# Altium integrated library ESP32S3 controller.IntLib: 13 symbols
Pins are listed as number, name and electrical type; pins without a type are passive.

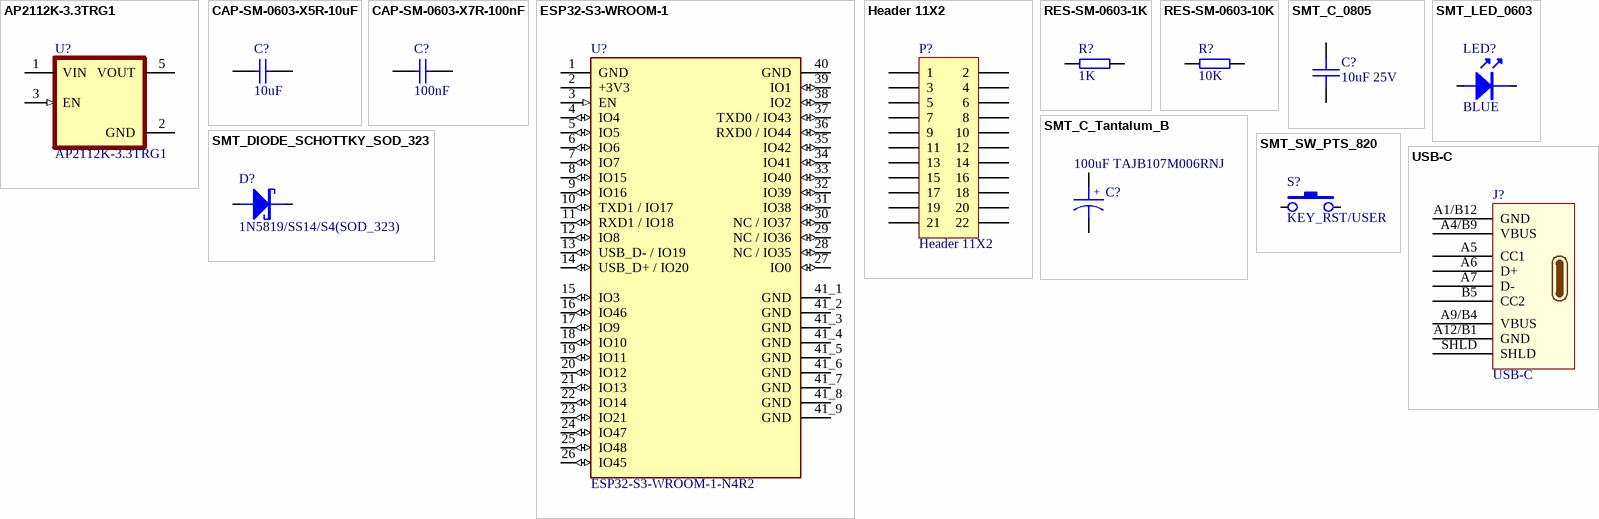
[diagram p0: symbols AP2112K-3.3TRG1 to USB-C]

## AP2112K-3.3TRG1
designator U?
Linear Voltage Regulator IC 1 Output 600mA SOT-25; MF: Diodes Inc.; Digi-Key_Part_Number: AP2112K-3.3TRG1DICT-ND; SnapEDA_Link: https://www.snapeda.com/parts/AP2112K-3.3TRG1/Diodes%20Inc./view-part/454988/?ref=snap; Package: SOT-753 Diodes Inc.; MP: AP2112K-3.3TRG1; Value: *; Digi-Key_Purchase_URL: https://www.digikey.com.au/product-detail/en/diodes-incorporated/AP2112K-3.3TRG1/AP2112K-3.3TRG1DICT-ND/4505257?utm_source=snapeda&utm_medium=aggregator&utm_campaign=symbol
footprint SOT95P285X140-5N
footprint SOT23-5
pins: 1 VIN (power), 2 GND (power), 3 EN (in), 5 VOUT (power)

## CAP-SM-0603-X5R-10uF
designator C?, comment value 10uF  (hidden comment: Cap Semi)
CAP SM 0603 X5R 10uF 10%; Tolerance: ±10%; Supplier 1: Farnell; Supplier 2: Digi-Key; Supplier Part Number 1: 2366833; Supplier Part Number 2: 490-3896-1-ND
footprint SMT0603
footprint CAPC1608X90N (Chip Capacitor, Body 1.6x0.8mm, EIA 0603, IPC Medium Density)
pins: 1, 2

## CAP-SM-0603-X7R-100nF
designator C?, comment value 100nF  (hidden comment: Cap Semi)
CAP SM 0603 X7R 100nF 10%; Tolerance: ±10%; Supplier 1: Digi-Key; Supplier 2: Farnell; Supplier Part Number 1: 490-3167-1-ND; Supplier Part Number 2: 1775994RL
footprint SMT0603
footprint CAPC1608X90N (Chip Capacitor, Body 1.6x0.8mm, EIA 0603, IPC Medium Density)
pins: 1, 2

## ESP32-S3-WROOM-1
designator U?, comment ESP32-S3-WROOM-1-N4R2
Multiprotocol Modules SMD Module, ESP32-S3R8, 3.3V, 8 MB Octal PSRAM Die, 16 MB Quad SPI Flash, PCB Antenna; MPN: ESP32-S3-WROOM-1-N16R2; MF: Espressif Systems; Supplier Link: https://www.digikey.com/en/products/detail/espressif-systems/ESP32-S3-WROOM-1-N16R2/16162644; Package: Module Espressif Systems; Value: *; Digi-Key_Part_Number: 1965-ESP32-S3-WROOM-1-N16R2TR-ND; Check_prices: https://www.snapeda.com/parts/ESP32-WROOM-32/Espressif+Systems/view-part/?ref=eda; SnapEDA_Link: https://www.snapeda.com/parts/ESP32-WROOM-32/Espressif+Systems/view-part/?ref=snap; Price: 3.98; Supplier: Digikey
footprint ESP32-S3-WROOM-1
footprint ESP32-S3-WROOM-1_NO-KEEPOUT
pins: 1 GND (power), 2 +3V3 (power), 3 EN (in), 4 IO4 (io), 5 IO5 (io), 6 IO6 (io), 7 IO7 (io), 8 IO15 (io), 9 IO16 (io), 10 TXD1 / IO17 (io), 11 RXD1 / IO18 (io), 12 IO8 (io), 13 USB_D- / IO19 (io), 14 USB_D+ / IO20 (io), 15 IO3 (io), 16 IO46 (io), 17 IO9 (io), 18 IO10 (io), 19 IO11 (io), 20 IO12 (io), 21 IO13 (io), 22 IO14 (io), 23 IO21 (io), 24 IO47 (io), 25 IO48 (io), 26 IO45 (io), 27 IO0 (io), 28 NC / IO35 (io), 29 NC / IO36 (io), 30 NC / IO37 (io), 31 IO38 (io), 32 IO39 (io), 33 IO40 (io), 34 IO41 (io), 35 IO42 (io), 36 RXD0 / IO44 (io), 37 TXD0 / IO43 (io), 38 IO2 (io), 39 IO1 (io), 40 GND (power), 41_1 GND (power), 41_2 GND (power), 41_3 GND (power), 41_4 GND (power), 41_5 GND (power), 41_6 GND (power), 41_7 GND (power), 41_8 GND (power), 41_9 GND (power)

## Header 11X2
designator P?
Header, 11-Pin, Dual row; LatestRevisionDate: 17-Jul-2002; LatestRevisionNote: Re-released for DXP Platform.; Publisher: Altium Limited
footprint HDR2X11 (Connector; Header; 11x2 Position)
signal-integrity model Connector
pins: 1, 2, 3, 4, 5, 6, 7, 8, 9, 10, 11, 12, 13, 14, 15, 16, 17, 18, 19, 20, 21, 22

## RES-SM-0603-1K
designator R?, comment value 1K  (hidden comment: Resistor)
RES SM 0603 1K
footprint SMT0603
footprint RESC1608N_ZERO (Chip Resistor, Body 1.6x0.8mm, 0603, IPC Medium Density)
pins: 1, 2

## RES-SM-0603-10K
designator R?, comment value 10K  (hidden comment: Resistor)
RES SM 0603 10K; Supplier 1: Farnell; Supplier 2: Digi-Key; Supplier Part Number 1: 9330399; Supplier Part Number 2: 541-10.0KHCT-ND
footprint SMT0603
footprint RESC1608N_ZERO (Chip Resistor, Body 1.6x0.8mm, 0603, IPC Medium Density)
pins: 1, 2

## SMT_C_0805
designator C?, comment 10uF 25V
Surface mount capacitor 0805
footprint CAPC2012X135N (Chip Capacitor, Body 2.0x1.2mm, EIA 0805, IPC Medium Density)
pins: 1, 2

## SMT_C_Tantalum_B
designator C?, comment 100uF TAJB107M006RNJ
Capacitor, SM Tantalum; Body 3.5 x 2.8 mm (LxW typ)
footprint SMT_C_Tantalum_B (Capacitor, SM Tantalum; Body 3.5 x 2.8 mm (LxW typ))
pins: 1, 2
text: +

## SMT_DIODE_SCHOTTKY_SOD_323
designator D?, comment 1N5819/SS14/S4(SOD_323)
Surface mount schottky diode SOD-323(0805) Package
footprint SMT_DIODE_SOD_323 (SOD-323(0805) Package)
pins: 1 A, 2 K

## SMT_LED_0603
designator LED?, comment BLUE
SMT LED
footprint SMT_LED_0603 (SMT LED)
pins: 1 A, 2 K

## SMT_SW_PTS_820
designator S?, comment KEY_RST/USER
SMT Tactile ‎Switch PTS 820 Series
footprint SMT_SW_PTS_820
pins: 1, 2

## USB-C
designator J?
footprint USB-C 8p
pins: A1/B12 GND, A4/B9 VBUS, A5 CC1, A6 D+, A7 D-, A9/B4 VBUS, A12/B1 GND, B5 CC2, SHLD